# Altium footprint library TSSOP.PcbLib: 2 footprints
Each footprint in its own frame and in the unit in brackets; x right, y up, seen from the top. Pads: shape width x height; smd on the part's side, far side on the other; paste and mask are expansions set on the pad; w line width, h text height; cw(c..) or ccw(c..) is an arc to the next point about the centre after c.
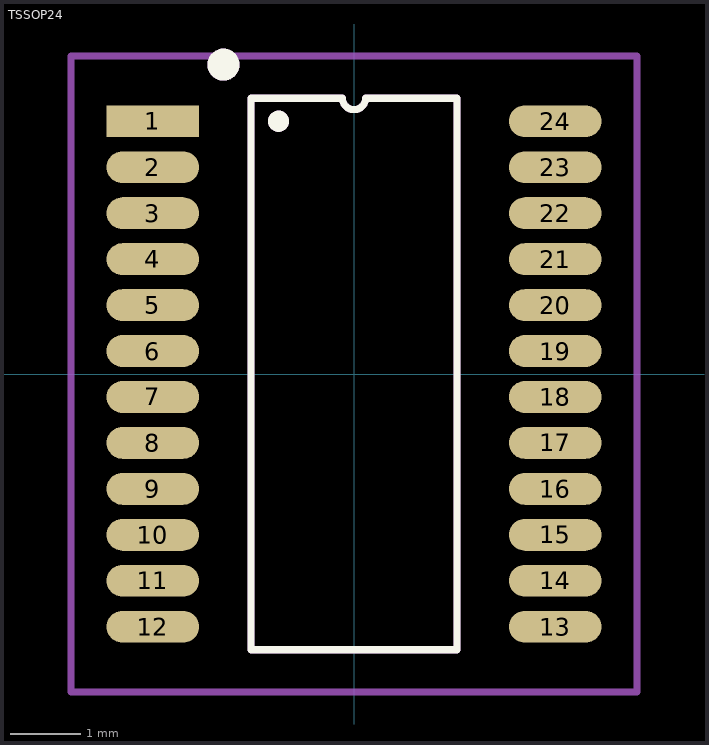
[diagram p0: the footprints below, top view; thin cyan lines are the x and y axes]

## PCBComponent_1 [mm]

## TSSOP24 [mm]
pads (24):
  rect 1.31x0.45 smd: 1(-2.845,3.575)
  oval 1.31x0.45 smd: 2(-2.845,2.925) 3(-2.845,2.275) 4(-2.845,1.625) 5(-2.845,0.975) 6(-2.845,0.325) 7(-2.845,-0.325) 8(-2.845,-0.975) 9(-2.845,-1.625) 10(-2.845,-2.275) 11(-2.845,-2.925) 12(-2.845,-3.575) 13(2.845,-3.575) 14(2.845,-2.925) 15(2.845,-2.275) 16(2.845,-1.625) 17(2.845,-0.975) 18(2.845,-0.325) 19(2.845,0.325) 20(2.845,0.975) 21(2.845,1.625) 22(2.845,2.275) 23(2.845,2.925) 24(2.845,3.575)
Top Overlay:
  circle w0.254: c-1.845,4.375 r0.1
  circle w0.254: c-1.067,3.575 r0.022
  lines w0.1: -1.455,-3.9 -1.455,3.9 -0.163,3.9 ccw(c0,3.9) 0.162,3.9 1.455,3.9 1.455,-3.9 -1.455,-3.9
Top Assembly:
  circle w0.254: c-1.845,4.375 r0.1
  circle w0.254: c-1.067,3.575 r0.022
  lines w0.1: -1.455,-3.9 1.455,-3.9 1.455,3.9 0.162,3.9 cw(c0,3.9) -0.163,3.9 -1.455,3.9 -1.455,-3.9
  text ".Designator" at -2.999,-0.2 h0.6
Top Courtyard:
  lines w0.1: -4,-4.5 -4,4.5 4,4.5 4,-4.5 -4,-4.5
3D body "tssop_24.step": height 1.21, standoff -0.01, extent -3.246,-3.925 3.156,3.875